# Altium footprint library Edge.PcbLib: 1 footprints
Each footprint in its own frame and in the unit in brackets; x right, y up, seen from the top. Pads: shape width x height; smd on the part's side, far side on the other; paste and mask are expansions set on the pad; w line width, h text height; cw(c..) or ccw(c..) is an arc to the next point about the centre after c.
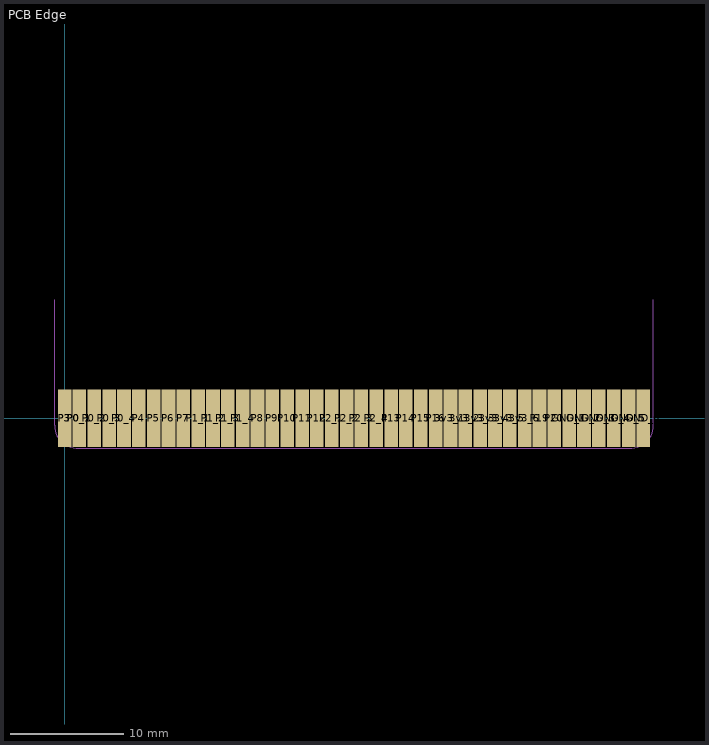
[diagram p0: the footprint, top view; thin cyan lines are the x and y axes]

## PCB Edge [mm] "Microbit Male Edge connector"
pads (43):
  rect 1.2x5.08 all layers, no hole mask+0: 3v3_1(34.06,0) 3v3_2(35.37,0) 3v3_3(36.68,0) 3v3_4(37.99,0) 3v3_5(39.3,0) 3v3_6(40.61,0) GND_1(44.54,0) GND_2(45.85,0) GND_3(47.16,0) GND_4(48.47,0) GND_5(49.78,0) GND_6(51.09,0) P0_1(1.31,0) P0_1(1.31,0) P0_1(1.31,0) P0_2(2.62,0) P0_3(3.93,0) P0_4(5.24,0) P1_1(11.79,0) P1_2(13.1,0) P1_3(14.41,0) P1_4(15.72,0) P2_1(23.58,0) P2_2(24.89,0) P2_3(26.2,0) P2_4(27.51,0) P3(0,0) P4(6.55,0) P5(7.86,0) P6(9.17,0) P7(10.48,0) P8(17.03,0) P9(18.34,0) P10(19.65,0) P11(20.96,0) P12(22.27,0) P13(28.82,0) P14(30.13,0) P15(31.44,0) P16(32.75,0) P19(41.92,0) P20(43.23,0)
  rect 1.2x5.08 smd mask+0: P3(0,0)
Mechanical 1:
  lines w0.01: -0.865,10.447 -0.865,-0.62 ccw(c1.073,-0.681) 1.012,-2.62 50.078,-2.62 ccw(c50.016,-0.681) 51.955,-0.62 51.955,10.447